# Altium schematic symbol library ADPLL_slope_gen.SchLib: 1 symbol
Pins are listed as number, name and electrical type; pins without a type are passive.

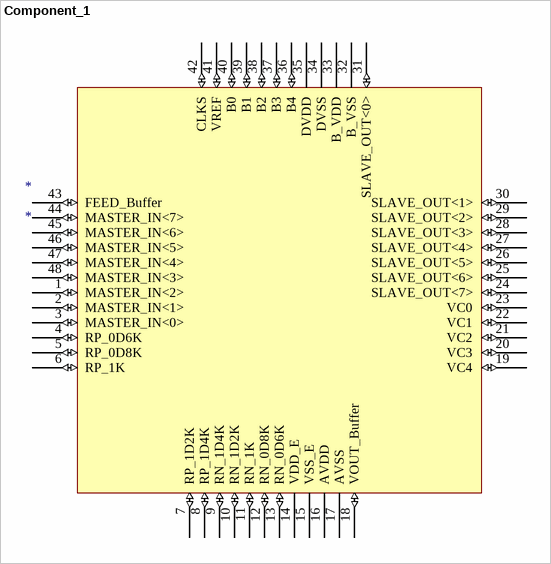
[diagram p0: symbol Component_1]

## Component_1
designator *
footprint SB48 (DIP48) (DIP; 48 Leads; Row Spacing 15.24 mm; Pitch 2.54 mm)
pins: 1 MASTER_IN<2> (io), 2 MASTER_IN<1> (io), 3 MASTER_IN<0> (io), 4 RP_0D6K (io), 5 RP_0D8K (io), 6 RP_1K (io), 7 RP_1D2K (io), 8 RP_1D4K (io), 9 RN_1D4K (io), 10 RN_1D2K (io), 11 RN_1K (io), 12 RN_0D8K (io), 13 RN_0D6K (io), 14 VDD_E (power), 15 VSS_E (power), 16 AVDD (power), 17 AVSS (power), 18 VOUT_Buffer (io), 19 VC4 (io), 20 VC3 (io), 21 VC2 (io), 22 VC1 (io), 23 VC0 (io), 24 SLAVE_OUT<7> (io), 25 SLAVE_OUT<6> (io), 26 SLAVE_OUT<5> (io), 27 SLAVE_OUT<4> (io), 28 SLAVE_OUT<3> (io), 29 SLAVE_OUT<2> (io), 30 SLAVE_OUT<1> (io), 31 SLAVE_OUT<0> (io), 32 B_VSS (power), 33 B_VDD (power), 34 DVSS (power), 35 DVDD (power), 36 B4 (io), 37 B3 (io), 38 B2 (io), 39 B1 (io), 40 B0 (io), 41 VREF (io), 42 CLKS (io), 43 FEED_Buffer (io), 44 MASTER_IN<7> (io), 45 MASTER_IN<6> (io), 46 MASTER_IN<5> (io), 47 MASTER_IN<4> (io), 48 MASTER_IN<3> (io)